# Altium footprint library X1321WVS-2x07J-C40D53.PcbLib: 1 footprints
Each footprint in its own frame and in the unit in brackets; x right, y up, seen from the top. Pads: shape width x height; smd on the part's side, far side on the other; paste and mask are expansions set on the pad; w line width, h text height; cw(c..) or ccw(c..) is an arc to the next point about the centre after c.
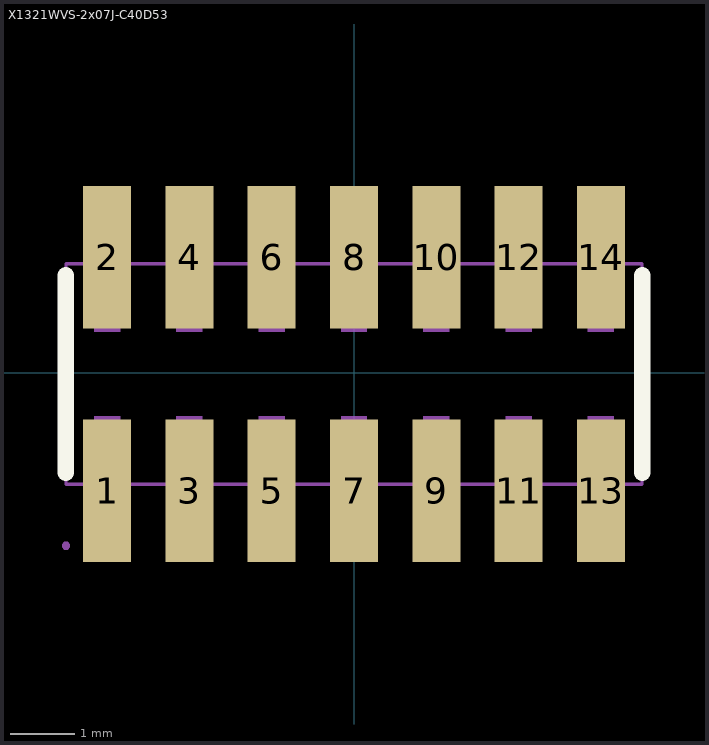
[diagram p0: the footprint, top view; thin cyan lines are the x and y axes]

## X1321WVS-2x07J-C40D53 [mm]
pads (14):
  rect 0.74x2.2 smd: 1(-3.81,-1.822) 2(-3.81,1.778) 3(-2.54,-1.822) 4(-2.54,1.778) 5(-1.27,-1.822) 6(-1.27,1.778) 7(0,-1.822) 8(0,1.778) 9(1.27,-1.822) 10(1.27,1.778) 11(2.54,-1.822) 12(2.54,1.778) 13(3.81,-1.822) 14(3.81,1.778)
Top Overlay:
  lines w0.254: -4.445,-1.546 -4.445,1.502 ; 4.445,-1.546 4.445,1.502
Mechanical 15:
  region: 3.61,0.628 3.61,2.628 4.01,2.628 4.01,0.628
  region: 3.61,-2.672 3.61,-0.672 4.01,-0.672 4.01,-2.672
  region: 2.34,0.628 2.34,2.628 2.74,2.628 2.74,0.628
  region: 2.34,-2.672 2.34,-0.672 2.74,-0.672 2.74,-2.672
  region: 1.07,0.628 1.07,2.628 1.47,2.628 1.47,0.628
  region: 1.07,-2.672 1.07,-0.672 1.47,-0.672 1.47,-2.672
  region: -0.2,0.628 -0.2,2.628 0.2,2.628 0.2,0.628
  region: -0.2,-2.672 -0.2,-0.672 0.2,-0.672 0.2,-2.672
  region: -1.47,0.628 -1.47,2.628 -1.07,2.628 -1.07,0.628
  region: -1.47,-2.672 -1.47,-0.672 -1.07,-0.672 -1.07,-2.672
  region: -2.74,0.628 -2.74,2.628 -2.34,2.628 -2.34,0.628
  region: -2.74,-2.672 -2.74,-0.672 -2.34,-0.672 -2.34,-2.672
  region: -4.01,0.628 -4.01,2.628 -3.61,2.628 -3.61,0.628
  region: -4.01,-2.672 -4.01,-0.672 -3.61,-0.672 -3.61,-2.672
  region: -4.385,-2.672 -4.385,-2.697 -4.42,-2.732 -4.47,-2.732 -4.505,-2.697 -4.505,-2.672 -4.505,-2.647 -4.47,-2.612 -4.42,-2.612 -4.385,-2.647 -4.385,-2.672
  lines w0.051: -4.445,-1.722 4.445,-1.722 4.445,1.678 -4.445,1.678 -4.445,-1.722